# Altium footprint library MPX5700DP.PcbLib: 1 footprints
Each footprint in its own frame and in the unit in brackets; x right, y up, seen from the top. Pads: shape width x height; smd on the part's side, far side on the other; paste and mask are expansions set on the pad; w line width, h text height; cw(c..) or ccw(c..) is an arc to the next point about the centre after c.
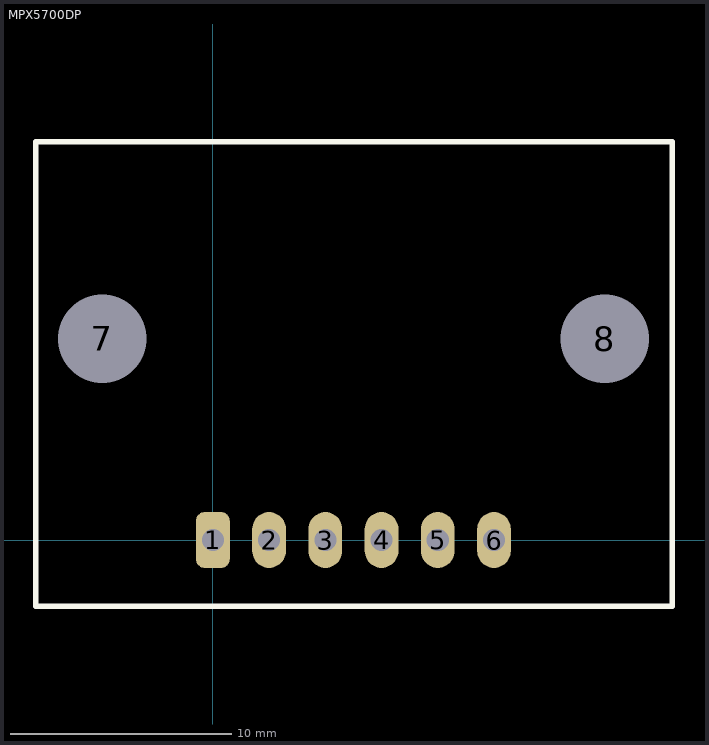
[diagram p0: the footprint, top view; thin cyan lines are the x and y axes]

## MPX5700DP [mm]
pads (8):
  rrect50% 1.524x2.524 hole 1: 1(0,0)
  oval 1.524x2.524 hole 1: 2(2.54,0) 3(5.08,0) 4(7.62,0) 5(10.16,0) 6(12.7,0)
  rrect50% 2x2 hole 4: 7(-5,9.1) 8(17.7,9.1)
Top Overlay:
  lines w0.254: -8,-3 -8,18 20.75,18 20.75,-3 -8,-3